# Altium schematic symbol library AT25DF081A.SchLib: 1 symbol
Pins are listed as number, name and electrical type; pins without a type are passive.

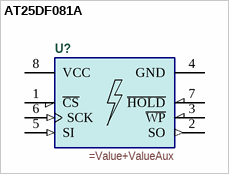
[diagram p0: symbol AT25DF081A]

## AT25DF081A
designator U?
=Description
pins: 1 ~{CS}, 2 SO (out), 3 ~{WP}, 4 GND (power), 5 SI (in), 6 SCK (in), 7 ~{HOLD}, 8 VCC (power)